# Altium footprint library USB.PcbLib: 1 footprints
Each footprint in its own frame and in the unit in brackets; x right, y up, seen from the top. Pads: shape width x height; smd on the part's side, far side on the other; paste and mask are expansions set on the pad; w line width, h text height; cw(c..) or ccw(c..) is an arc to the next point about the centre after c.
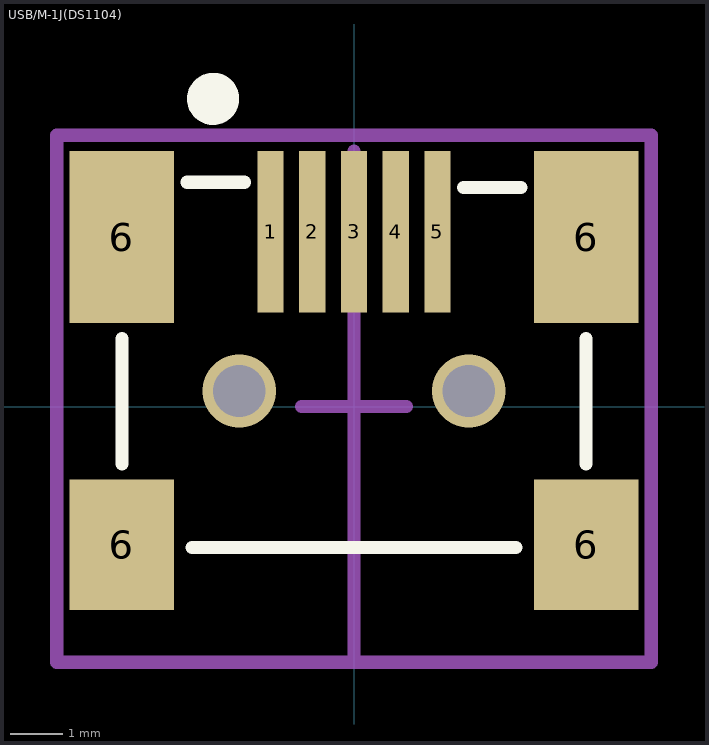
[diagram p0: the footprint, top view; thin cyan lines are the x and y axes]

## USB/M-1J(DS1104) [mm]
pads (9):
  rect 0.5x3.1 smd: 1(-1.6,3.35) 2(-0.8,3.35) 3(0,3.35) 4(0.8,3.35) 5(1.6,3.35)
  rect 2x2.5 smd: 6(-4.45,-2.65) 6(4.45,-2.65)
  rect 2x3.3 smd: 6(-4.45,3.25) 6(4.45,3.25)
via 2.2,0.3 diameter 1.4 hole 1
via -2.2,0.3 diameter 1.4 hole 1
Top Overlay:
  circle w0.5: c-2.7,5.9 r0.25
  lines w0.254: -4.45,-1.1 -4.45,1.3 ; -3.2,4.3 -2.1,4.3 ; -3.1,-2.7 3.1,-2.7 ; 2.1,4.2 3.2,4.2 ; 4.45,-1.1 4.45,1.3
Board:
  lines w0.254: -5.45,-4.9 5.45,-4.9 ; 0,-4.9 0,4.9
Mechanical 15:
  lines w0.254: -1,0 1,0 ; 0,-1 0,1 ; -5.7,-4.9 5.7,-4.9 5.7,5.2 -5.7,5.2 -5.7,-4.9
3D body "USBM-1J(DS1104).stp": height 4.14, standoff -0.95, extent -4.95,-5.6 4.95,3.6